# Altium footprint library F10wers_Footprints.PcbLib: 41 footprints (part 3 of 3)
Each footprint in its own frame and in the unit in brackets; x right, y up, seen from the top. Pads: shape width x height; smd on the part's side, far side on the other; paste and mask are expansions set on the pad; w line width, h text height; cw(c..) or ccw(c..) is an arc to the next point about the centre after c.
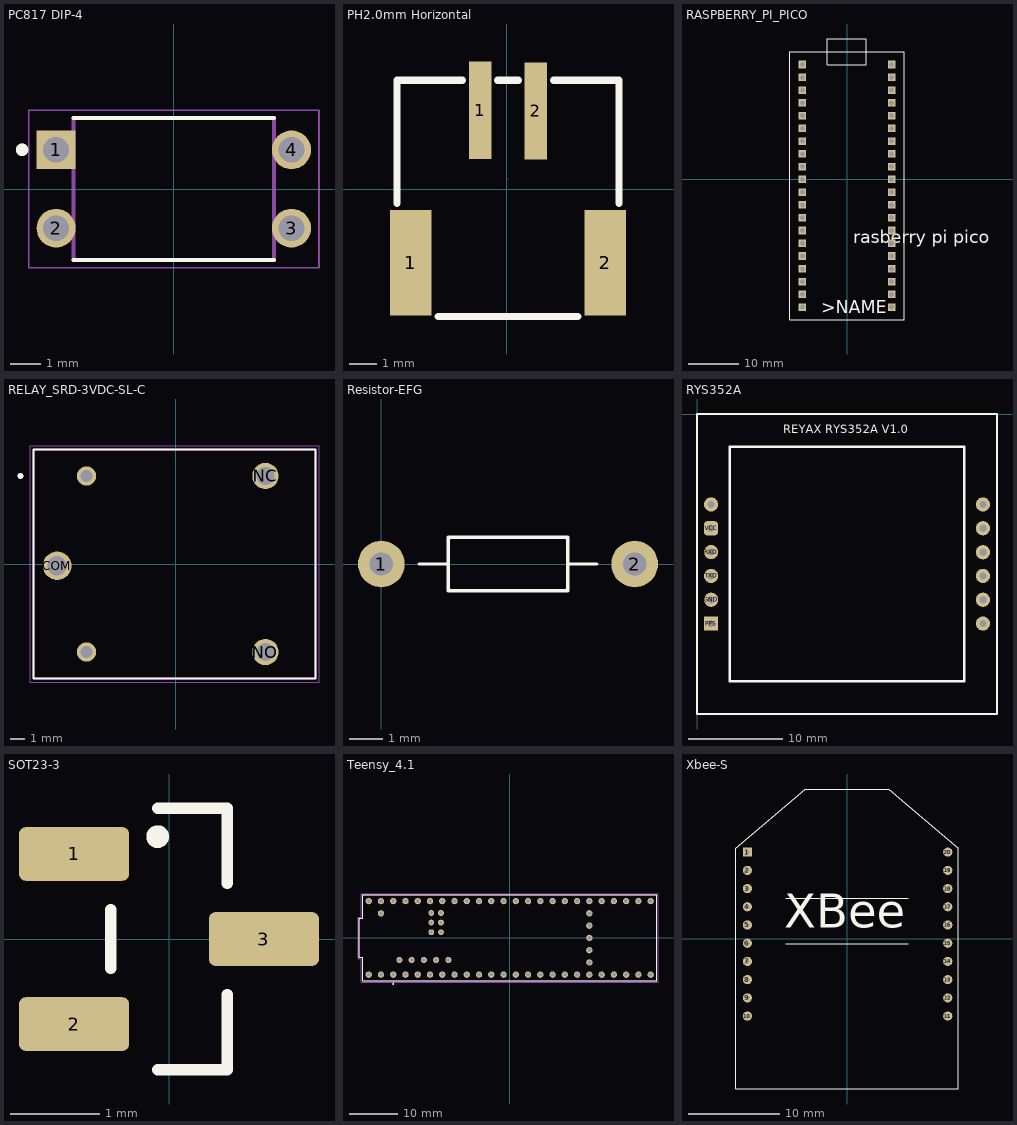
[diagram p2: the footprints below, top view; thin cyan lines are the x and y axes]

## PC817 DIP-4 [mm]
height 4.55
pads (4):
  rect 1.26x1.26 / inner round 1.26 / far side rect 1.26x1.26 hole 0.84: 1(-3.81,1.27)
  round 1.26 hole 0.84: 2(-3.81,-1.27) 3(3.81,-1.27) 4(3.81,1.27)
Top Overlay:
  circle w0.2: c-4.91,1.27 r0.1
  lines w0.127: -3.25,-2.3 3.25,-2.3 ; -3.25,2.3 3.25,2.3
Mechanical 13:
  circle w0.2: c-4.91,1.27 r0.1
  lines w0.127: -3.25,-2.3 -3.25,2.3 3.25,2.3 3.25,-2.3 -3.25,-2.3
Mechanical 15:
  lines w0.05: -4.7,-2.55 -4.7,2.55 4.7,2.55 4.7,-2.55 -4.7,-2.55
3D body "step_temp.STEP": height 4.55, standoff -3.6, extent -3.935,-2.3 3.935,2.3

## PH2.0mm Horizontal [mm]
pads (4):
  rect 1.5x3.8 smd paste+0 mask+0.051: 1(-3.45,-2.646) 2(3.55,-2.646)
  rect 0.8x3.5 smd paste+0 mask+0.051: 1(-0.95,2.85) 2(1.05,2.825)
Top Overlay:
  lines w0.254: -3.95,-0.515 -3.95,3.929 -1.581,3.929 ; -2.47,-4.571 2.569,-4.571 ; -0.319,3.929 0.419,3.929 ; 1.681,3.929 4.05,3.929 4.05,-0.515
Mechanical 15:
  lines w0.003: 0.05,0.377 0.05,0.378

## RASPBERRY_PI_PICO [mm]
pads (40):
  rect 1.508x1.508 / inner round 1.508 / far side rect 1.508x1.508 hole 1: 3V3(8.89,12.7) 3V3_EN(8.89,15.24) ADC_VREF(8.89,10.16) AGND(8.89,5.08) GND(8.89,17.78) GND2(8.89,-7.62) GND3(8.89,-20.32) GND4(-8.89,17.78) GND5(-8.89,5.08) GND6(-8.89,-7.62) GND7(-8.89,-20.32) GP0(-8.89,22.86) GP1(-8.89,20.32) GP2(-8.89,15.24) GP3(-8.89,12.7) GP4(-8.89,10.16) GP5(-8.89,7.62) GP6(-8.89,2.54) GP7(-8.89,0) GP8(-8.89,-2.54) GP9(-8.89,-5.08) GP10(-8.89,-10.16) GP11(-8.89,-12.7) GP12(-8.89,-15.24) GP13(-8.89,-17.78) GP14(-8.89,-22.86) GP15(-8.89,-25.4) GP16(8.89,-25.4) GP17(8.89,-22.86) GP18(8.89,-17.78) GP19(8.89,-15.24) GP20(8.89,-12.7) GP21(8.89,-10.16) GP22(8.89,-5.08) GP26_A0(8.89,0) GP27_A1(8.89,2.54) GP28_A2(8.89,7.62) RUN(8.89,-2.54) VBUS(8.89,22.86) VSYS(8.89,20.32)
Top Overlay:
  lines w0.152: -11.43,-27.94 -11.43,25.4 11.43,25.4 11.43,-27.94 -11.43,-27.94 ; -3.893,22.86 -3.893,27.94 3.81,27.94 3.81,22.86 -3.893,22.86
  text "rasberry pi pico" at 1.27,-12.7 h2.54
  text ">NAME" at -5.08,-26.67 h2.54
3D body "step_temp.STEP": height 3.73, standoff 0, extent -10.5,-25.5 10.5,26.8

## RELAY_SRD-3VDC-SL-C [mm]
height 15.8
pads (5):
  round 1.308 hole 0.8: COIL1(-6.1,6) COIL2(-6.1,-6)
  round 1.95 hole 1.3: COM(-8.1,-0.12)
  round 1.8 hole 1.2: NC(6.1,6) NO(6.1,-6)
Top Overlay:
  circle w0.2: c-10.6,6 r0.1
  lines w0.127: -9.7,-7.8 9.5,-7.8 9.5,7.8 -9.7,7.8 -9.7,-7.8
Mechanical 13:
  circle w0.2: c-10.6,6 r0.1
  lines w0.127: -9.7,-7.8 9.5,-7.8 9.5,7.8 -9.7,7.8 -9.7,-7.8
Mechanical 15:
  lines w0.05: -9.95,-8.05 9.75,-8.05 9.75,8.05 -9.95,8.05 -9.95,-8.05
3D body "step_temp.STEP": height 15.8, standoff -3, extent -9.6,-7.8 9.6,7.8

## Resistor-EFG [mm]
pads (2):
  round 1.4 hole 0.7: 1(0,0) 2(7.62,0)
Top Overlay:
  lines w0.1: 1.143,0 2.01,0 ; 5.61,0 6.477,0 ; 2.01,-0.8 2.01,0.8 5.61,0.8 5.61,-0.8 2.01,-0.8 ; 2.01,-0.7 ccw(c2.11,-0.7) 2.11,-0.8 5.51,-0.8 ccw(c5.51,-0.7) 5.61,-0.7 5.61,0.7 ccw(c5.51,0.7) 5.51,0.8 2.11,0.8 ccw(c2.11,0.7) 2.01,0.7 2.01,-0.7

## RYS352A [mil]
pads (12):
  round 60 hole 30: GND(59.06,-779.92) GND1(1200.79,-379.92) GND2(1200.79,-479.92) GND3(1200.79,-580.71) GND4(1200.79,-679.92) GND5(1200.79,-779.92) GND6(1200.79,-879.92) RESET_N(59.06,-379.92) RXD(59.06,-579.92) TXD(59.06,-679.92)
  rect 60x60 hole 30: PPS(59.06,-879.92)
  rrect50% 60x60 hole 30: VCC(59.06,-479.92)
Top Overlay:
  lines w10: 0,-1259.84 1259.84,-1259.84 1259.84,0 0,0 0,-1259.84 ; 137.8,-1122.05 1122.05,-1122.05 1122.05,-137.8 137.8,-137.8 137.8,-1122.05
  text "REYAX RYS352A V1.0" at 362.24,-93.05 h60

## SOT23-3 [mm]
height 1.11
pads (3):
  rrect25% 1.23x0.6 smd paste+0 mask+0.102: 1(-1.06,0.95) 2(-1.06,-0.95) 3(1.06,0)
Top Overlay:
  circle w0.127: c-0.127,1.143 r0.064
  lines w0.127: -0.65,-0.33 -0.65,0.33 ; -0.125,-1.46 0.65,-1.46 0.65,-0.62 ; -0.125,1.46 0.65,1.46 0.65,0.62
3D body "2N7002.STEP": height 1.3, standoff 0, extent -1.3,-1.525 1.3,1.515

## Teensy_4.1 [mm]
height 4.07
pads (65):
  round 1.308 hole 0.8: 0(-26.67,-7.62) 1(-24.13,-7.62) 2(-21.59,-7.62) 3(-19.05,-7.62) 3.3V_1(6.35,-7.62) 3.3V_2(-24.13,7.62) 3.3V_3(16.51,-2.54) 4(-16.51,-7.62) 5(-13.97,-7.62) 6(-11.43,-7.62) 7(-8.89,-7.62) 8(-6.35,-7.62) 9(-3.81,-7.62) 10(-1.27,-7.62) 11(1.27,-7.62) 12(3.81,-7.62) 13(3.81,7.62) 14(1.27,7.62) 15(-1.27,7.62) 16(-3.81,7.62) 17(-6.35,7.62) 18(-8.89,7.62) 19(-11.43,7.62) 20(-13.97,7.62) 21(-16.51,7.62) 22(-19.05,7.62) 23(-21.59,7.62) 24(8.89,-7.62) 25(11.43,-7.62) 26(13.97,-7.62) 27(16.51,-7.62) 28(19.05,-7.62) 29(21.59,-7.62) 30(24.13,-7.62) 31(26.67,-7.62) 32(29.21,-7.62) 33(29.21,7.62) 34(26.67,7.62) 35(24.13,7.62) 36(21.59,7.62) 37(19.05,7.62) 38(16.51,7.62) 39(13.97,7.62) 40(11.43,7.62) 41(8.89,7.62) GND1(-29.21,-7.62) GND2(6.35,7.62) GND3(-26.67,7.62) GND4(16.51,0) ON/OFF(16.51,5.08) PROGRAM(16.51,2.54) VBAT(16.51,-5.08) VIN(-29.21,7.62) VUSB(-26.67,5.08)
  round 1.258 hole 0.75: 5V(-22.86,-4.57) D+(-17.78,-4.57) D-(-20.32,-4.57) USB_GND1(-15.24,-4.57) USB_GND2(-12.7,-4.57)
  round 1.208 hole 0.7: GND5(-14.24,3.17) LED(-16.24,3.17) R+(-16.24,5.17) R-(-14.24,5.17) T+(-14.24,1.17) T-(-16.24,1.17)
Top Overlay:
  circle w0.2: c-24.13,-9.5 r0.1
  lines w0.127: -31.18,-4.03 -30.48,-4.03 -30.48,-8.89 30.48,-8.89 30.48,8.89 -30.48,8.89 -30.48,4.03 -31.18,4.03 -31.18,-4.03
Mechanical 13:
  circle w0.2: c-24.13,-9.5 r0.1
  lines w0.127: -31.18,-4.03 -30.48,-4.03 -30.48,-8.89 30.48,-8.89 30.48,8.89 -30.48,8.89 -30.48,4.03 -31.18,4.03 -31.18,-4.03
  text "Teensy 4.1" at -0.25,0.34 h1.27
Mechanical 15:
  lines w0.05: -31.43,-4.28 -30.73,-4.28 -30.73,-9.14 30.73,-9.14 30.73,9.14 -30.73,9.14 -30.73,4.28 -31.43,4.28 -31.43,-4.28
3D body "step_temp.STEP": height 7.15, standoff -6.7, extent -31.18,-8.89 30.48,8.89

## Xbee-S [mm]
pads (20):
  rect 1.008x1.008 hole 0.5: 1(-10.946,9.534)
  round 1.008 hole 0.5: 2(-10.946,7.534) 3(-10.946,5.534) 4(-10.946,3.534) 5(-10.946,1.534) 6(-10.946,-0.466) 7(-10.946,-2.466) 8(-10.946,-4.466) 9(-10.946,-6.466) 10(-10.946,-8.466) 11(11.054,-8.466) 12(11.054,-6.466) 13(11.054,-4.466) 14(11.054,-2.466) 15(11.054,-0.466) 16(11.054,1.534) 17(11.054,3.534) 18(11.054,5.534) 19(11.054,7.534) 20(11.054,9.534)
Top Overlay:
  lines w0: -6.76,-0.521 6.74,-0.521 ; -6.76,4.452 -3.385,4.452 3.365,4.452 6.74,4.452 ; -12.198,-16.474 -12.198,9.935 -4.607,16.466 4.591,16.466 12.181,9.936 12.181,-16.474 -12.198,-16.474
  text "XBee" at -6.917,0.035 h6.35
3D body "User Library-XBeeProS1-1.STEP": height 12.83, standoff -3.73, extent -11.805,-15.695 11.925,17.245